# EAGLE library part 2X5HEAD (library Teensy356)
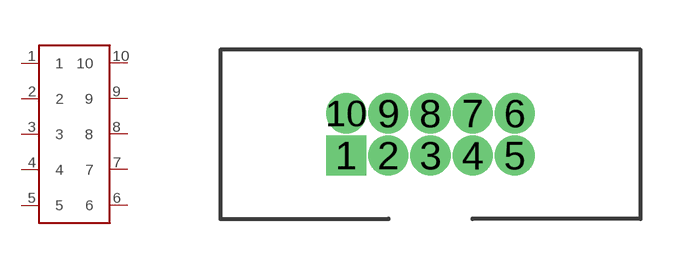
[diagram p3: symbol with the pads of 2X5; footprint 2X5]

Designator prefix -

## 2X5HEAD  [2X5]
1  1
2  2
3  3
4  4
5  5
6  6
7  7
8  8
9  9
10  10

## Footprint 2X5 (pad centres in mm)
drill 0.7 pad 1.016 square: 1 0,0
drill 0.7 pad 1.016: 2 1.27,0; 3 2.54,0; 4 3.81,0; 5 5.08,0; 6 5.08,1.27; 7 3.81,1.27; 8 2.54,1.27; 9 1.27,1.27; 10 0,1.27